# Altium footprint library ElectroMechanical.PcbLib: 6 footprints
Each footprint in its own frame and in the unit in brackets; x right, y up, seen from the top. Pads: shape width x height; smd on the part's side, far side on the other; paste and mask are expansions set on the pad; w line width, h text height; cw(c..) or ccw(c..) is an arc to the next point about the centre after c.
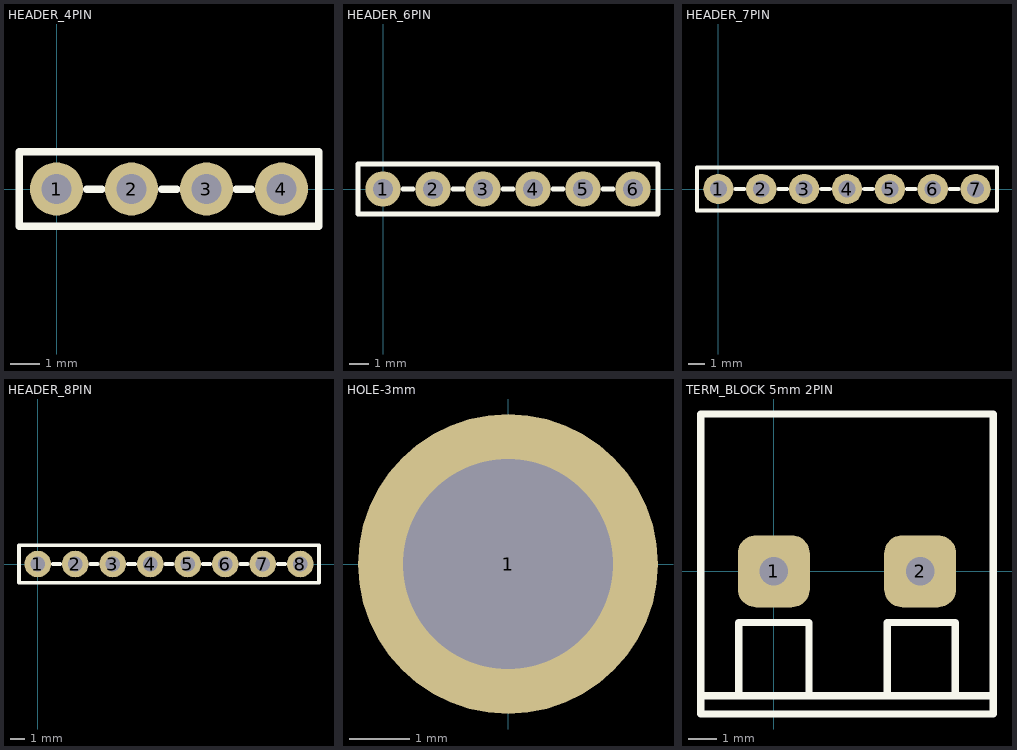
[diagram p0: the footprints below, top view; thin cyan lines are the x and y axes]

## HEADER_4PIN [mm]
pads (4):
  round 1.8 hole 1: 1(0,0) 2(2.54,0) 3(5.08,0) 4(7.62,0)
Top Overlay:
  lines w0.254: 1.016,0 1.524,0 ; 3.556,0 4.064,0 ; 6.096,0 6.604,0 ; -1.27,-1.27 -1.27,1.27 8.89,1.27 8.89,-1.27 -1.27,-1.27
3D body "User Library-1x4 TH Pitch 2_54mm.STEP": height 9.2, standoff -3.5, extent -1.27,-1.27 8.89,1.27

## HEADER_6PIN [mm]
pads (6):
  round 1.8 hole 1: 1(0,0) 2(2.54,0) 3(5.08,0) 4(7.62,0) 5(10.16,0) 6(12.7,0)
Top Overlay:
  lines w0.254: 1.016,0 1.524,0 ; 3.556,0 4.064,0 ; 6.096,0 6.604,0 ; 8.636,0 9.144,0 ; 11.176,0 11.684,0 ; -1.27,-1.27 -1.27,1.27 13.97,1.27 13.97,-1.27 -1.27,-1.27
3D body "User Library-PLS-6-1.step": height 8.54, standoff -3, extent -1.27,-1.27 13.97,1.27

## HEADER_7PIN [mm]
pads (7):
  round 1.8 hole 1: 1(0,0) 2(2.54,0) 3(5.08,0) 4(7.62,0) 5(10.16,0) 6(12.7,0) 7(15.24,0)
Top Overlay:
  lines w0.254: 1.016,0 1.524,0 ; 3.556,0 4.064,0 ; 6.096,0 6.604,0 ; 8.636,0 9.144,0 ; 11.176,0 11.684,0 ; 13.716,0 14.224,0 ; -1.27,-1.27 16.51,-1.27 16.51,1.27 -1.27,1.27 -1.27,-1.27
3D body "User Library-PLS-7.step": height 8.54, standoff -3, extent -1.27,-1.219 16.51,1.321

## HEADER_8PIN [mm]
pads (8):
  round 1.8 hole 1: 1(0,0) 2(2.54,0) 3(5.08,0) 4(7.62,0) 5(10.16,0) 6(12.7,0) 7(15.24,0) 8(17.78,0)
Top Overlay:
  lines w0.254: 1.016,0 1.524,0 ; 3.556,0 4.064,0 ; 6.096,0 6.604,0 ; 8.636,0 9.144,0 ; 11.176,0 11.684,0 ; 13.716,0 14.224,0 ; 16.256,0 16.764,0 ; -1.27,-1.27 19.05,-1.27 19.05,1.27 -1.27,1.27 -1.27,-1.27
3D body "User Library-1x8 TH Pitch 2_54mm.STEP": height 9.2, standoff -3.5, extent -1.27,-1.27 19.05,1.27

## HOLE-3mm [mm]
pads (1):
  round 5 hole 3.5: 1(0,0)

## TERM_BLOCK 5mm 2PIN [mm]
pads (2):
  rrect50% 2.5x2.5 hole 1: 1(0,0) 2(5.08,0)
Top Overlay:
  lines w0.254: -2.54,-4.318 7.62,-4.318 ; -1.219,-4.318 -1.219,-1.778 1.219,-1.778 1.219,-4.318 ; 3.937,-4.318 3.937,-1.778 6.299,-1.778 6.299,-4.318 ; -2.54,-4.953 -2.54,0 -2.54,5.461 7.62,5.461 7.62,-4.953 -2.54,-4.953
3D body "User Library-klema-5mm-2pin.step": height 14, standoff -4, extent -2.46,-5.039 7.54,5.461